# EAGLE library part ECL86 (library radiotubes)
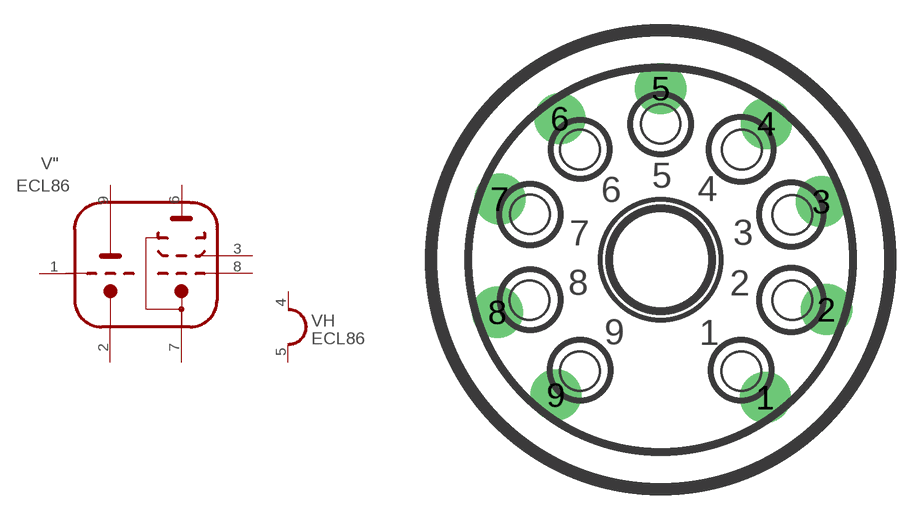
[diagram p113: symbol with the pads of NOVAL; footprint NOVAL]

Designator prefix V; gates "=ECL86 H=HEATER_1

## ECL86  [NOVAL]
1  ":G1T  pas
2  ":KT  pas
3  ":G2P  pas
4  H:H1  pas
5  H:H2  pas
6  ":AP  pas
7  ":K,G3P  pas
8  ":G1P  pas
9  ":AT  pas

## Footprint NOVAL (pad centres in mm)
drill 1.422 pad 2.54: 1 5.207,-6.858; 2 8.254,-2.484; 3 8.004,2.893; 4 5.258,6.77; 5 0,8.524; 6 -5.004,7.024; 7 -8.004,3.02; 8 -8.127,-2.611; 9 -5.207,-6.731